# Altium schematic symbol library 440119-4.Schlib: 1 symbol
Pins are listed as number, name and electrical type; pins without a type are passive.

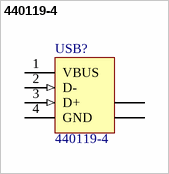
[diagram p0: symbol 440119-4]

## 440119-4
designator USB?
USB 1.1, Right Angle, Thru-Hole, B Type, Receptacle, 4 Position, Black
pins: 1 VBUS (power) "Power", 2 D- (in) "-DATA", 3 D+ (in) "+DATA", 4 GND (power) "Ground", 5 SHLD "Shield", 6 SHLD "Shield"